# Altium schematic symbol library MainBoard.SCHLIB: 12 symbols
Pins are listed as number, name and electrical type; pins without a type are passive.

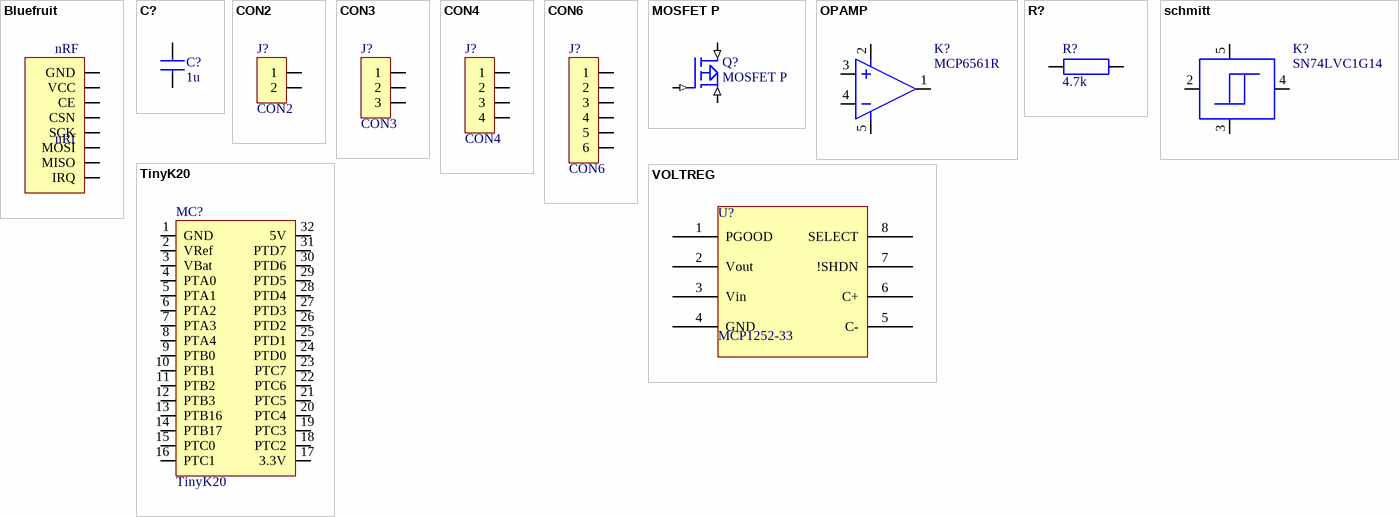
[diagram p0: symbols Bluefruit to VOLTREG]

## Bluefruit
designator nRF, comment nRf
footprint CON_THT_2x4P_RM2.54_Stiftl (Connector; Header; 2x4Position)
pins: 1 GND, 2 VCC, 3 CE, 4 CSN, 5 SCK, 6 MOSI, 7 MISO, 8 IRQ

## C?
designator C?, comment 1u
Normaler Kondensator
footprint 0805
pins: 1, 2

## CON2
designator J?
footprint POWER2
pins: 1, 2

## CON3
designator J?
footprint SIP3
pins: 1, 2, 3

## CON4
designator J?
footprint SIP8
pins: 1, 2, 3, 4

## CON6
designator J?
footprint SIP6
pins: 1, 2, 3, 4, 5, 6

## MOSFET P
designator Q?
pins: DRAIN (in), GATE (in), SOURCE (in)

## OPAMP
designator K?, comment MCP6561R
footprint SOT23
footprint SOT23_LP2985
pins: 1, 2, 3, 4, 5

## R?
designator R?, comment 4.7k
Normaler Widerstand
footprint 0805
pins: 1, 2

## schmitt
designator K?, comment SN74LVC1G14
footprint SOT23_LP2985
pins: 2, 3, 4, 5

## TinyK20
designator MC?
footprint DIP32
pins: 1 GND, 2 VRef, 3 VBat, 4 PTA0, 5 PTA1, 6 PTA2, 7 PTA3, 8 PTA4, 9 PTB0, 10 PTB1, 11 PTB2, 12 PTB3, 13 PTB16, 14 PTB17, 15 PTC0, 16 PTC1, 17 3.3V, 18 PTC2, 19 PTC3, 20 PTC4, 21 PTC5, 22 PTC6, 23 PTC7, 24 PTD0, 25 PTD1, 26 PTD2, 27 PTD3, 28 PTD4, 29 PTD5, 30 PTD6, 31 PTD7, 32 5V

## VOLTREG
designator U?, comment MCP1252-33
footprint MSOP8
pins: 1 PGOOD, 2 Vout, 3 Vin, 4 GND, 5 C-, 6 C+, 7 !SHDN, 8 SELECT